# EAGLE library part MC100EP57DTG (library ON Semiconductor_By_element14_Batch_1)
ECL 4:1 Differential Multiplexer
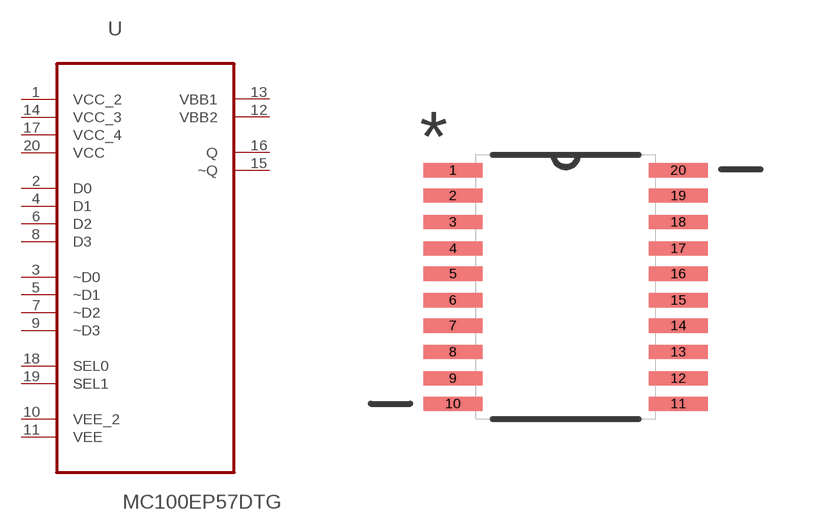
[diagram p126: symbol with the pads of SOP65P640X120-20N; footprint SOP65P640X120-20N]

Designator prefix U

## MC100EP57DTG (MPN: MC100EP57DTG; OC_FARNELL: 1468710; OC_NEWARK: 71J5412; PACKAGE: TSSOP-20; SUPPLIER: On Semiconductor)  [SOP65P640X120-20N]
1  VCC_2  pwr
2  D0  in
3  ~D0  in
4  D1  in
5  ~D1  in
6  D2  in
7  ~D2  in
8  D3  in
9  ~D3  in
10  VEE_2  pwr
11  VEE  pwr
12  VBB2  out
13  VBB1  out
14  VCC_3  pwr
15  ~Q  out
16  Q  out
17  VCC_4  pwr
18  SEL0  in
19  SEL1  in
20  VCC  pwr

## Footprint SOP65P640X120-20N (pad centres in mm)
smd 1.473 x 0.356: 1 -2.819,2.921; 2 -2.819,2.286; 3 -2.819,1.626; 4 -2.819,0.965; 5 -2.819,0.33; 6 -2.819,-0.33; 7 -2.819,-0.965; 8 -2.819,-1.626; 9 -2.819,-2.286; 10 -2.819,-2.921; 11 2.819,-2.921; 12 2.819,-2.286; 13 2.819,-1.626; 14 2.819,-0.965; 15 2.819,-0.33; 16 2.819,0.33; 17 2.819,0.965; 18 2.819,1.626; 19 2.819,2.286; 20 2.819,2.921